# Altium footprint library STM32F401CC_2022-06-18.PcbLib: 16 footprints
Each footprint in its own frame and in the unit in brackets; x right, y up, seen from the top. Pads: shape width x height; smd on the part's side, far side on the other; paste and mask are expansions set on the pad; w line width, h text height; cw(c..) or ccw(c..) is an arc to the next point about the centre after c.
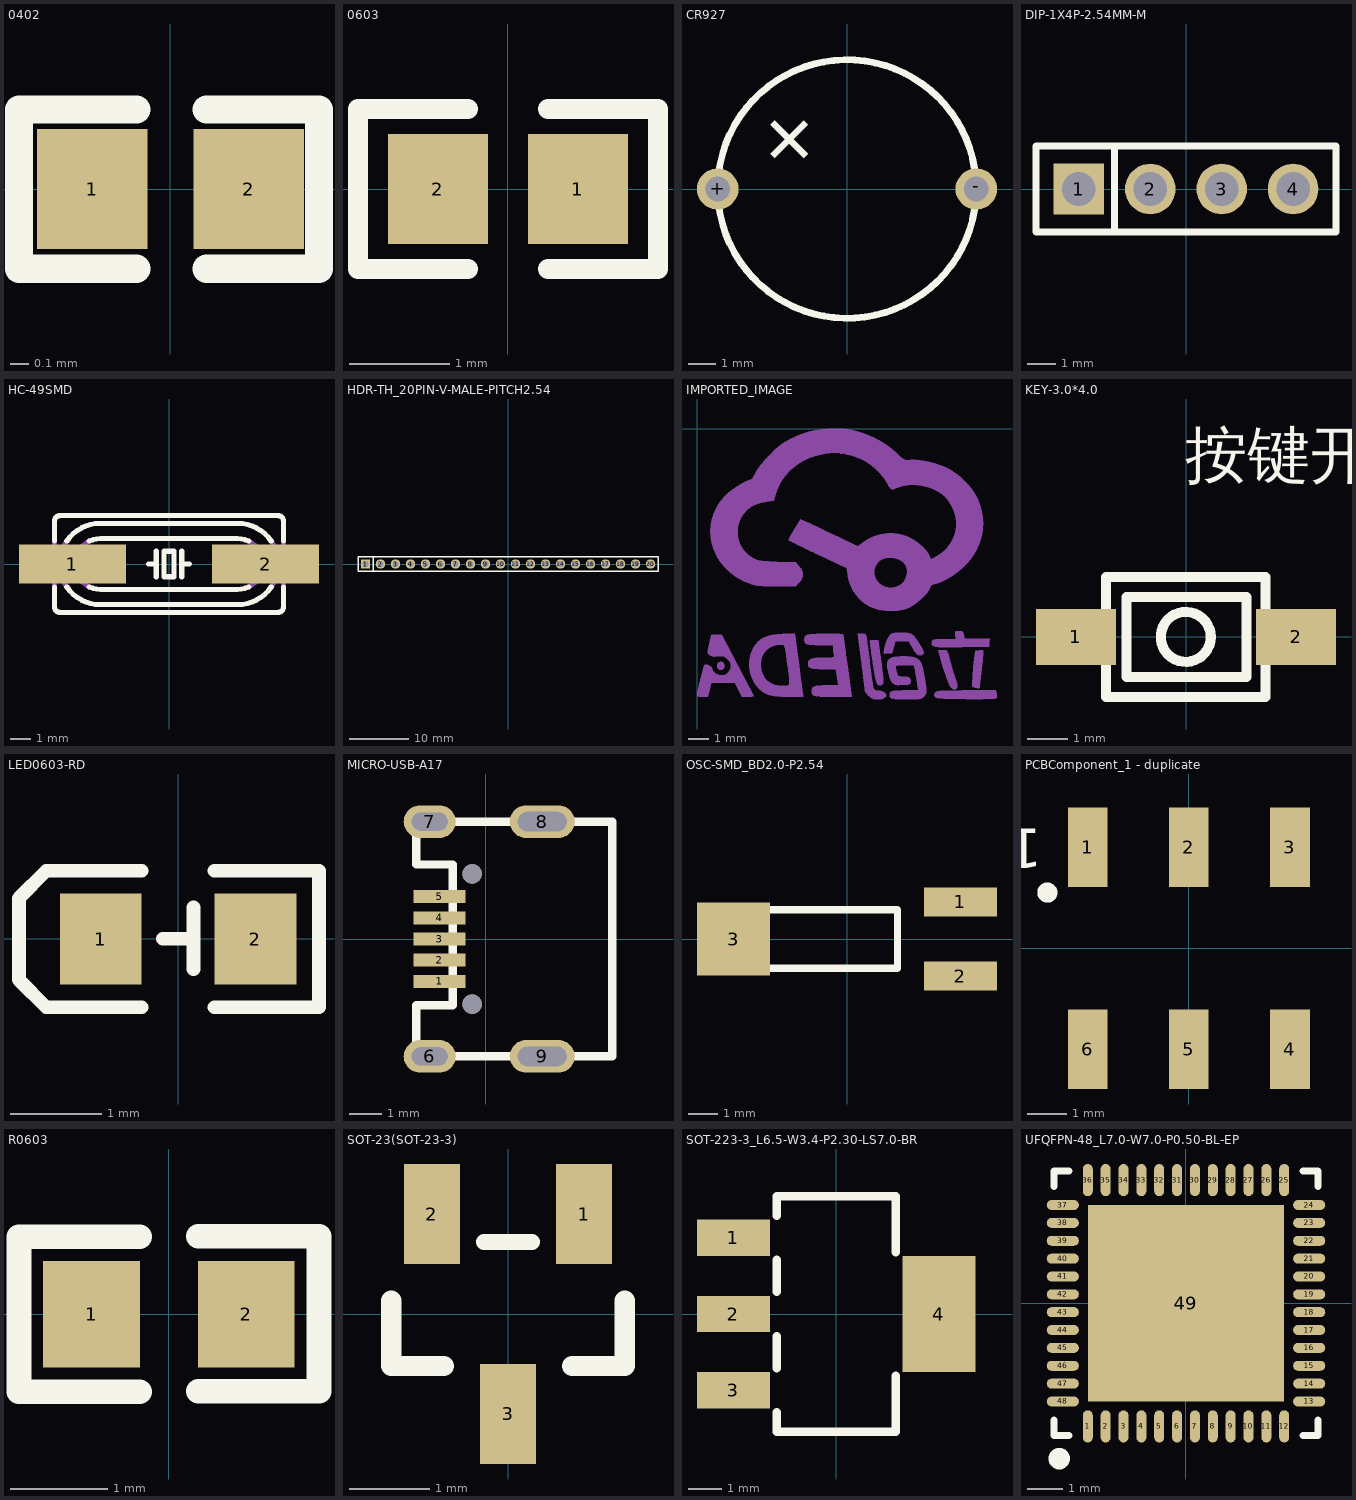
[diagram p0: the footprints below, top view; thin cyan lines are the x and y axes]

## 0402 [mm]
pads (2):
  rect 0.6x0.65 smd: 1(-0.424,0) 2(0.424,0)
Top Overlay:
  lines w0.152: -0.185,-0.432 -0.287,-0.432 -0.82,-0.432 -0.82,0.432 -0.185,0.432 ; 0.196,-0.432 0.805,-0.432 0.805,0.432 0.272,0.432 0.196,0.432

## 0603 [mm]
pads (2):
  rect 1x1.1 smd: 1(0.7,0) 2(-0.7,0)
Top Overlay:
  lines w0.2: -0.4,-0.8 -1.5,-0.8 -1.5,0.8 -0.4,0.8 ; 0.4,-0.8 1.5,-0.8 1.5,0.2 1.5,0.8 0.4,0.8

## CR927 [mil]
pads (2):
  round 60 hole 36: +(-187.01,0) -(187.01,0)
Top Overlay:
  circle w10: c0,0 r187.01
  text "+" at -26.72,63.28 h80

## DIP-1X4P-2.54MM-M [mm]
pads (4):
  rect 1.8x1.8 hole 1.2: 1(-3.81,0)
  round 1.8 hole 1.2: 2(-1.27,0) 3(1.27,0) 4(3.81,0)
Top Overlay:
  lines w0.254: -2.54,-1.524 -2.54,1.524 ; -5.334,-1.524 -5.334,1.524 5.334,1.524 5.334,-1.524 -5.334,-1.524

## HC-49SMD [mil]
pads (2):
  rect 210x76 smd: 1(-190,0) 2(190,0)
Top Overlay:
  lines w10: -225,-45 -225,-85 ccw(c-215,-85) -215,-95 215,-95 ccw(c215,-85) 225,-85 225,-45 ; -225,45 -225,85 cw(c-215,85) -215,95 215,95 cw(c215,85) 225,85 225,45 ; -201.14,-45 ccw(c-135,0) -135,-80 135,-80 ccw(c134.99,0) 201.14,-45 ; -201.15,45 cw(c-135,0) -135,80 135,80 cw(c135,0) 201.14,45 ; -156.79,-45 ccw(c-135,0) -135,-50 135,-50 ccw(c135,0) 156.79,-45 ; -156.79,45 cw(c-135,0) -135,50 135,50 cw(c135,0) 156.79,45 ; -40,0 -25,0 ; -25,-25 -25,0 ; -25,25 -25,0 ; 25,-25 25,0 ; 25,25 25,0 ; 40,0 25,0 ; -10,-25 10,-25 10,25 -10,25 -10,-25
Mechanical 15:
  lines w10: -225,-45 -225,-15 ; -225,45 -225,15 ; -201.14,-45 cw(c-135,0) -201.14,45 ; -156.79,-45 cw(c-135,0) -156.79,45 ; 156.79,-45 ccw(c135,0) 156.79,45 ; 201.14,-45 ccw(c135,0) 201.14,45 ; 225,-45 225,45 ; 225,-15 255,-15 255,15 225,15 ; -225,-15 -255,-15 -255,15 -225,15 ; -225,-15 -225,15

## HDR-TH_20PIN-V-MALE-PITCH2.54 [mm]
pads (20):
  rect 1.6x1.6 hole 1: 1(-24.13,0)
  round 1.6 hole 1: 2(-21.59,0) 3(-19.05,0) 4(-16.51,0) 5(-13.97,0) 6(-11.43,0) 7(-8.89,0) 8(-6.35,0) 9(-3.81,0) 10(-1.27,0) 11(1.27,0) 12(3.81,0) 13(6.35,0) 14(8.89,0) 15(11.43,0) 16(13.97,0) 17(16.51,0) 18(19.05,0) 19(21.59,0) 20(24.13,0)
Top Overlay:
  lines w0.254: -22.86,-1.25 -22.86,1.25 ; -25.4,-1.25 -25.4,1.25 25.4,1.25 25.4,-1.25 -25.4,-1.25

## IMPORTED_IMAGE [mm]
Bottom Overlay:
  drawing of 13 lines, arcs and shapes, not listed

## KEY-3.0*4.0 [mm]
pads (2):
  rect 2x1.4 smd: 1(-2.752,0.001) 2(2.752,-0.001)
Top Overlay:
  circle w0.254: c-0.006,-0.002 r0.625
  lines w0.25: -2.006,-1.501 -2.006,1.499 1.994,1.499 1.994,-1.501 -2.006,-1.501 ; -1.489,-0.999 -1.489,1.001 1.511,1.001 1.511,-0.999 -1.489,-0.999
  text "按键开关3*4*2" at -0.015,4.001 h1.14

## LED0603-RD [mm]
pads (2):
  rect 0.9x1 smd: 1(-0.85,0) 2(0.85,0)
Top Overlay:
  lines w0.15: -0.4,-0.75 -1.45,-0.75 -1.75,-0.45 -1.75,-0.35 -1.75,0.35 -1.75,0.45 -1.45,0.75 -0.4,0.75 ; -0.17,0.002 0.17,0.002 ; 0.17,-0.33 0.17,0.35 ; 0.4,-0.75 1.55,-0.75 ; 0.4,0.75 1.55,0.75 ; 1.55,-0.73 1.55,0.75

## MICRO-USB-A17 [mm]
pads (11):
  rect 1.6x0.4 smd: 1(-1.425,-1.3) 2(-1.425,-0.65) 3(-1.425,0) 4(-1.425,0.65) 5(-1.425,1.3)
  oval 1.6x1 hole 0.55 slot 1.1 at 0 deg: 6(-1.725,-3.6) 7(-1.725,3.6)
  oval 2x1 hole 0.6 slot 1.5 at 0 deg: 8(1.725,3.6) 9(1.725,-3.6)
  round 0.6 hole 0.6 unplated: ""(-0.424,-1.999) ""(-0.424,1.999)
Top Overlay:
  lines w0.254: -2.136,-3.581 -2.136,-2.032 -1.019,-2.032 -1.019,2.286 -2.136,2.286 -2.136,3.607 ; -2.125,-3.6 3.875,-3.6 3.875,3.6 -2.125,3.6

## OSC-SMD_BD2.0-P2.54 [mm]
pads (3):
  rect 2.5x1 smd: 1(3.885,1.27) 2(3.885,-1.27)
  rect 2.5x2.5 smd: 3(-3.885,0)
Top Overlay:
  lines w0.254: -4.27,-1 -4.27,1 1.73,1 1.73,-1 -4.27,-1

## PCBComponent_1 - duplicate [mm]
pads (6):
  rect 1x2 smd: 1(-2.54,2.54) 2(0,2.54) 3(2.54,2.54) 4(2.54,-2.54) 5(0,-2.54) 6(-2.54,-2.54)
Top Overlay:
  circle w0.254: c-3.556,1.397 r0.127
  text "1" at -3.683,3.002 h1

## R0603 [mm]
pads (2):
  rect 1x1.1 smd: 1(-0.8,0) 2(0.8,0)
Top Overlay:
  lines w0.254: -0.3,-0.8 -1.55,-0.8 -1.55,0.8 -0.3,0.8 ; 0.301,-0.795 1.551,-0.795 1.551,0.805 0.301,0.805

## SOT-23(SOT-23-3) [mm]
pads (3):
  rect 0.7x1.25 smd: 1(0.95,1.25) 2(-0.95,1.25) 3(0,-1.25)
Top Overlay:
  lines w0.2: -0.3,0.9 0.3,0.9
  lines w0.254: -1.46,0.165 -1.46,-0.65 ; 0.8,-0.65 1.46,-0.65 1.46,0.165 ; -1.46,-0.65 -0.8,-0.65 ; -1.46,-0.65 -0.8,-0.65 ; -1.46,-0.65 -0.8,-0.65

## SOT-223-3_L6.5-W3.4-P2.30-LS7.0-BR [mm]
pads (4):
  rect 2.2x1.1 smd: 1(-3.099,2.3) 2(-3.099,0) 3(-3.099,-2.3)
  rect 2.2x3.5 smd: 4(3.099,0)
Top Overlay:
  lines w0.254: -1.8,-2.965 -1.8,-3.55 1.8,-3.55 1.8,-1.865 ; -1.8,-1.635 -1.8,-0.665 ; -1.8,0.665 -1.8,1.635 ; -1.8,2.965 -1.8,3.55 1.8,3.55 1.8,1.865

## UFQFPN-48_L7.0-W7.0-P0.50-BL-EP [mm]
pads (49):
  oval 0.28x0.9 smd: 1(-2.751,-3.449) 2(-2.25,-3.449) 3(-1.75,-3.449) 4(-1.25,-3.449) 5(-0.749,-3.449) 6(-0.249,-3.449) 7(0.249,-3.449) 8(0.749,-3.449) 9(1.25,-3.449) 10(1.75,-3.449) 11(2.25,-3.449) 12(2.751,-3.449) 25(2.751,3.449) 26(2.25,3.449) 27(1.75,3.449) 28(1.25,3.449) 29(0.749,3.449) 30(0.249,3.449) 31(-0.249,3.449) 32(-0.749,3.449) 33(-1.25,3.449) 34(-1.75,3.449) 35(-2.25,3.449) 36(-2.751,3.449)
  oval 0.9x0.28 smd: 13(3.449,-2.751) 14(3.449,-2.25) 15(3.449,-1.75) 16(3.449,-1.25) 17(3.449,-0.749) 18(3.449,-0.249) 19(3.449,0.249) 20(3.449,0.749) 21(3.449,1.25) 22(3.449,1.75) 23(3.449,2.25) 24(3.449,2.751) 37(-3.449,2.751) 38(-3.449,2.25) 39(-3.449,1.75) 40(-3.449,1.25) 41(-3.449,0.749) 42(-3.449,0.249) 43(-3.449,-0.249) 44(-3.449,-0.749) 45(-3.449,-1.25) 46(-3.449,-1.75) 47(-3.449,-2.25) 48(-3.449,-2.751)
  rect 5.5x5.5 smd: 49(0,0)
Top Overlay:
  lines w0.2: -3.7,-3.275 -3.7,-3.7 -3.275,-3.7 ; -3.7,3.275 -3.7,3.7 -3.275,3.7 ; 3.275,-3.7 3.7,-3.7 3.7,-3.275 ; 3.275,3.7 3.7,3.7 3.7,3.275
  lines w0.3: -3.551,-4.201 ccw(c-3.55,-4.351) -3.548,-4.201